# Altium footprint library CR-1206.PcbLib: 1 footprints
Each footprint in its own frame and in the unit in brackets; x right, y up, seen from the top. Pads: shape width x height; smd on the part's side, far side on the other; paste and mask are expansions set on the pad; w line width, h text height; cw(c..) or ccw(c..) is an arc to the next point about the centre after c.
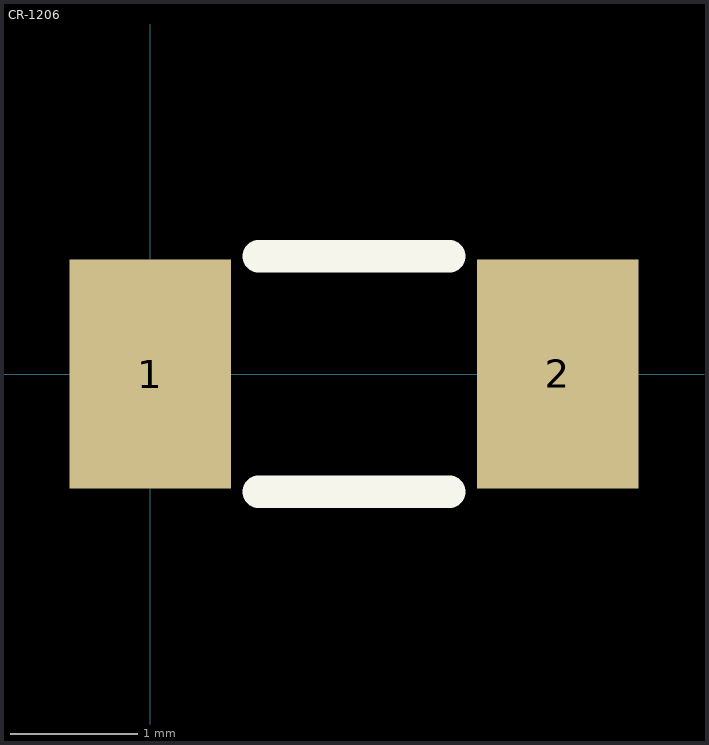
[diagram p0: the footprint, top view; thin cyan lines are the x and y axes]

## CR-1206 [mm]
height 1.27
pads (2):
  rect 1.27x1.8 smd: 1(0,0) 2(3.2,0)
Top Overlay:
  lines w0.254: 0.85,-0.925 2.35,-0.925 ; 0.85,0.925 2.35,0.925
3D body "SMD RLC-1206.STEP": height 0.51, standoff -0.04, extent 0.01,-0.8 3.21,0.8